# Altium schematic symbol library IRLR6225.SchLib: 1 symbol
Pins are listed as number, name and electrical type; pins without a type are passive.

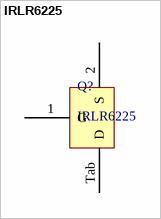
[diagram p0: symbol IRLR6225]

## IRLR6225
designator Q?
footprint IRLR6225 (D-PAK, 3-Pads, Body 6.21x6.73mm (max), IPC High Density)
pins: 1 G, 2 S, Tab D